# EAGLE library part POTI_DIGI_SPI_1X (library robo_ag)
Digitales Potentiometer Reichelt:MCP 4151-103E/P MCP4151 3-5V 257 Steps 10k SPI
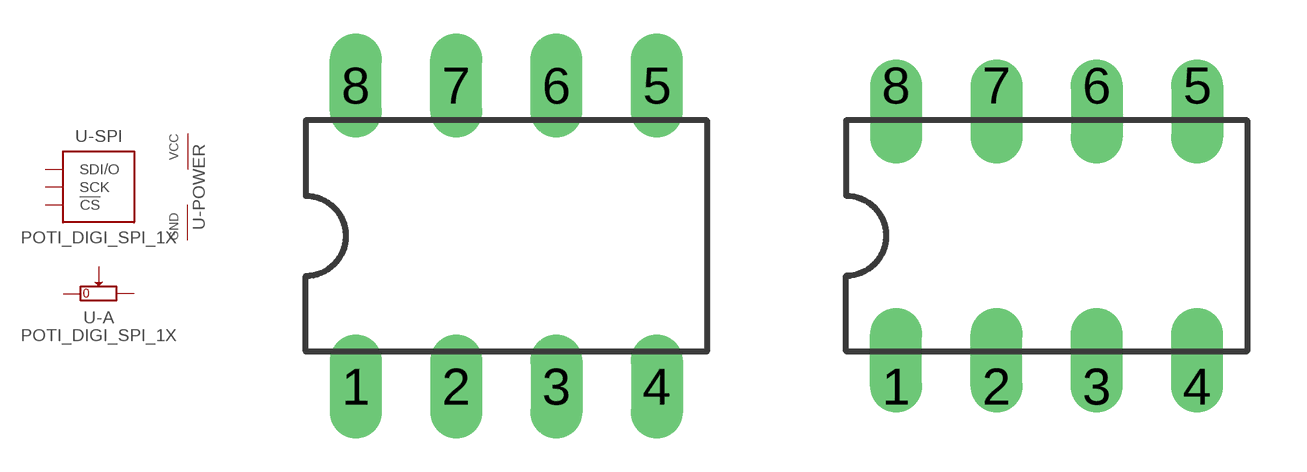
[diagram p12: symbol with the pads of IC_DIL08; footprints IC_DIL08, IC_DIL08_IN]

Designator prefix -; gates -POWER=POWER -SPI=SPI_3PIN -A=POTI

## POTI_DIGI_SPI_1X  [IC_DIL08]
1  -SPI:!CS  in
2  -SPI:SCK  in
3  -SPI:SDI/O
4  -POWER:GND  pwr
5  -A:LOW  pas
6  -A:WIPE  pas
7  -A:HIGH  pas
8  -POWER:VCC  pwr

## POTI_DIGI_SPI_1X-IN  [IC_DIL08_IN]
Pads as for IC_DIL08

## POTI_DIGI_SPI_1X-OUT  [IC_DIL08_OUT]
Pads as for IC_DIL08

## Footprint IC_DIL08 (pad centres in mm)
Dual In Line Package
drill 0.813 long: 1 -3.81,-3.81; 2 -1.27,-3.81; 3 1.27,-3.81; 4 3.81,-3.81; 5 3.81,3.81; 6 1.27,3.81; 7 -1.27,3.81; 8 -3.81,3.81

## Footprint IC_DIL08_IN (pad centres in mm)
Dual In Line Package
drill 0.813 offset: 1 -3.81,-3.81; 2 -1.27,-3.81; 3 1.27,-3.81; 4 3.81,-3.81; 5 3.81,3.81; 6 1.27,3.81; 7 -1.27,3.81; 8 -3.81,3.81

## Footprint IC_DIL08_OUT (pad centres in mm)
Dual In Line Package
drill 0.813 offset: 1 -3.81,-3.81; 2 -1.27,-3.81; 3 1.27,-3.81; 4 3.81,-3.81; 5 3.81,3.81; 6 1.27,3.81; 7 -1.27,3.81; 8 -3.81,3.81